# Altium schematic symbol library LM2576D2TR4-5G.SCHLIB: 1 symbol
Pins are listed as number, name and electrical type; pins without a type are passive.

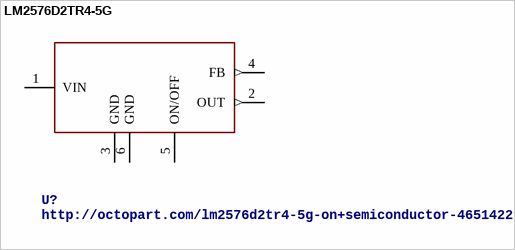
[diagram p0: symbol LM2576D2TR4-5G]

## LM2576D2TR4-5G
designator U?, comment http://octopart.com/lm2576d2tr4-5g-on+semiconductor-46514222
MF: ON Semiconductor; Package: D2PAK ON Semiconductor; Availability: Good; MP: LM2576D2TR4-5G; Price: 1.67 USD
footprint D2PAK-5
pins: 1 VIN, 2 OUT (out), 3 GND, 4 FB (out), 5 ON/OFF, 6 GND